# Altium footprint library Crystals.PCBLIB: 22 footprints (part 1 of 2)
Each footprint in its own frame and in the unit in brackets; x right, y up, seen from the top. Pads: shape width x height; smd on the part's side, far side on the other; paste and mask are expansions set on the pad; w line width, h text height; cw(c..) or ccw(c..) is an arc to the next point about the centre after c.
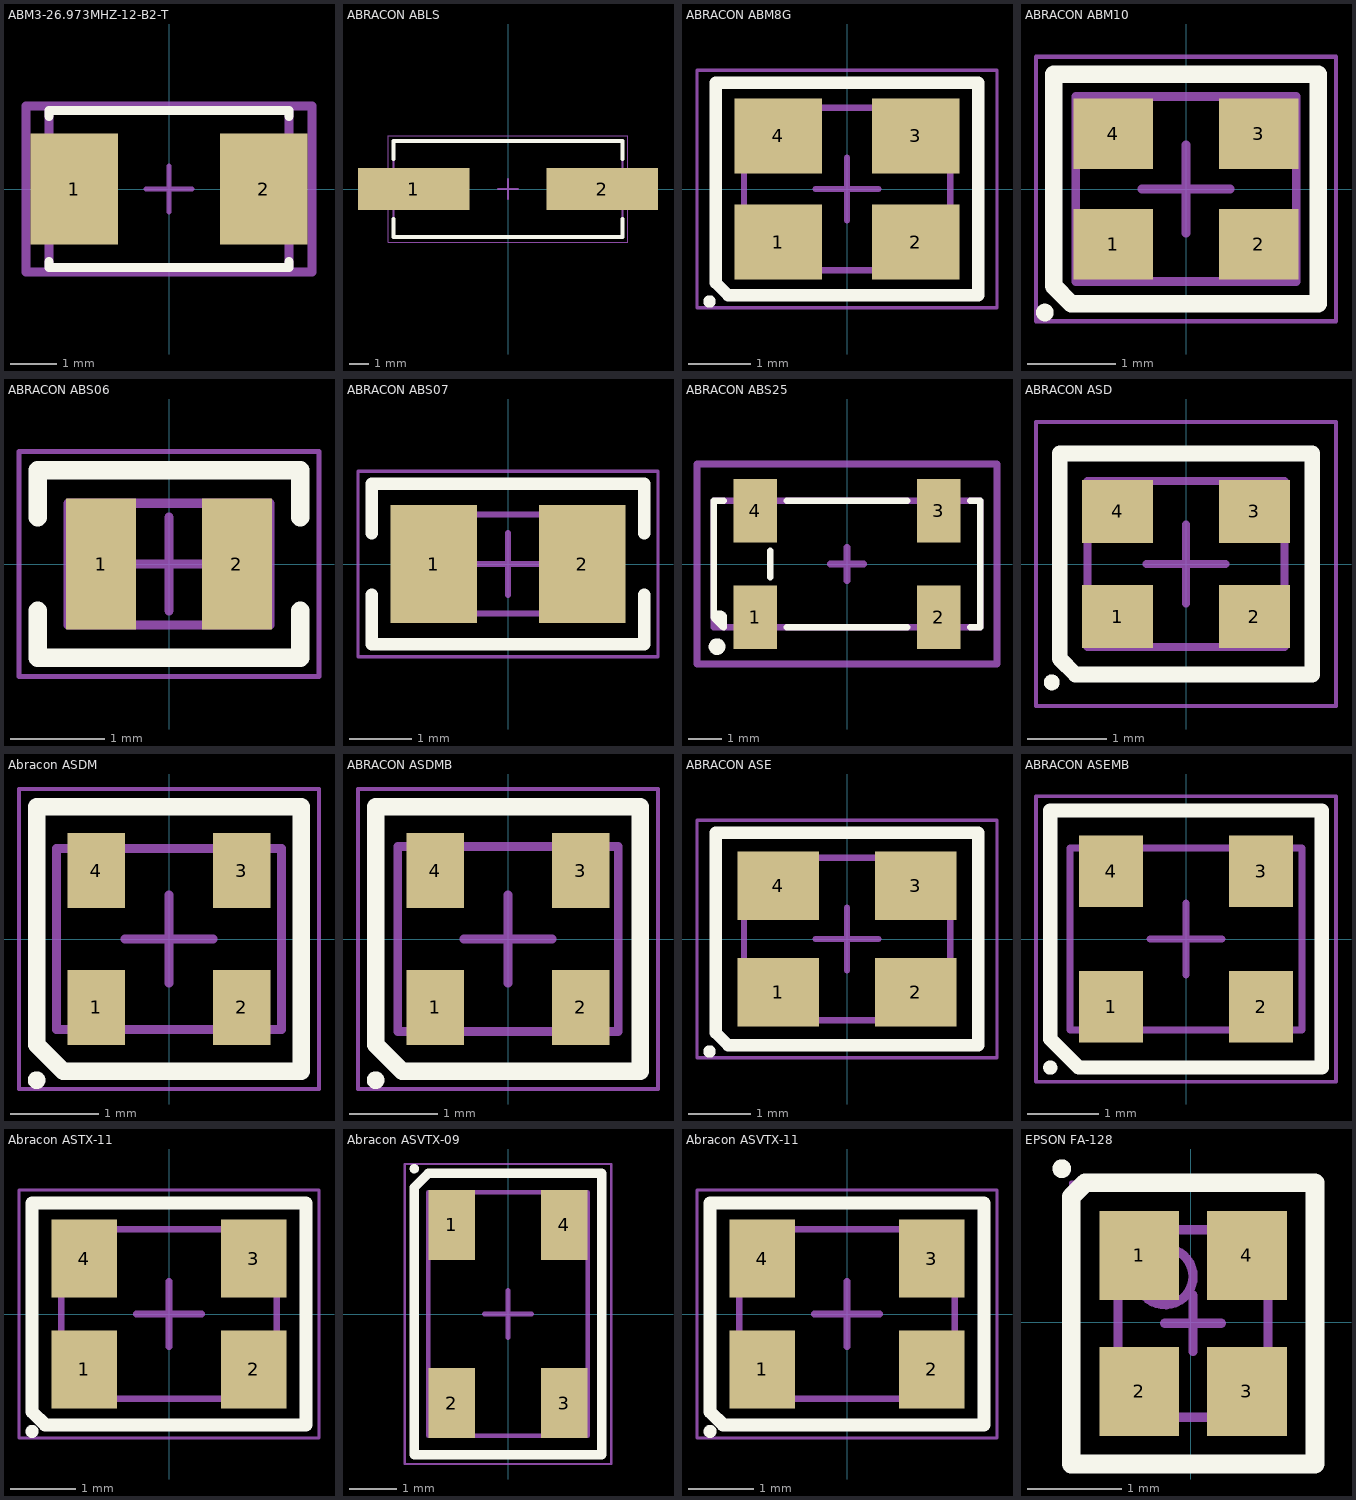
[diagram p0: the footprints below, top view; thin cyan lines are the x and y axes]

## ABM3-26.973MHZ-12-B2-T [mm]
pads (2):
  rect 1.9x2.4 smd paste+0 mask+0: 1(-2.05,0) 2(2.05,0)
Top Overlay:
  lines w0.2: -2.6,-1.575 -2.6,-1.7 2.6,-1.7 2.6,-1.575 ; -2.6,1.575 -2.6,1.7 2.6,1.7 2.6,1.575
Top 3D Body:
  lines w0.2: -2.6,-1.7 -2.6,1.7 2.6,1.7 2.6,-1.7 -2.6,-1.7
Top Courtyard:
  lines w0.2: -3.1,-1.8 -3.1,1.8 3.1,1.8 3.1,-1.8 -3.1,-1.8
Top Assembly:
  lines w0.2: -3.1,-1.8 -3.1,1.8 3.1,1.8 3.1,-1.8 -3.1,-1.8
  text ".Designator" at 0,0.188 h1
Top Component Center:
  lines w0.1: -0.5,0 0.5,0 ; 0,-0.5 0,0.5
3D body "Crys_Abracon_ABM3-25_000MHZ-B2-T_eec.STEP": height 0.25, standoff 0, extent -3.1,-1.8 3.1,1.8

## ABRACON ABLS [mm] "Crystal, 2-Leads, Body 4.70x11.40mm, Pitch 8.80mm, IPC Medium Density"
height 4.2
pads (2):
  rect 5.6x2.1 smd: 1(-4.75,0) 2(4.75,0)
Top Overlay:
  lines w0.2: -5.775,-1.5 -5.775,-2.425 5.775,-2.425 5.775,-1.5 ; -5.775,1.5 -5.775,2.425 5.775,2.425 5.775,1.5
Mechanical 13:
  lines w0.1: -5.775,-2.425 5.775,-2.425 5.775,2.425 -5.775,2.425 -5.775,-2.425
Mechanical 15:
  lines w0.05: -6.025,-2.675 6.025,-2.675 6.025,2.675 -6.025,2.675 -6.025,-2.675
  lines w0.1: -0.5,0 0.5,0 ; 0,-0.5 0,0.5
3D body "HC49US SMT Crystal.STEP": height 4.2, standoff 0, extent -6.35,-2.35 6.35,2.35

## ABRACON ABM8G [mm] "Crystal, 4-Leads, Body 2.50x3.20mm, Pitch 2.20mm, IPC Medium Density"
height 1
pads (4):
  rect 1.4x1.2 smd: 1(-1.1,-0.85) 2(1.1,-0.85) 3(1.1,0.85) 4(-1.1,0.85)
Top Overlay:
  circle w0.1: c-2.2,-1.8 r0.05
  lines w0.2: -2.1,-1.5 -2.1,1.7 2.1,1.7 2.1,-1.7 -1.1,-1.7 -1.9,-1.7 -2.1,-1.5
Mechanical 13:
  lines w0.1: -1.65,-1.3 -1.65,1.3 1.65,1.3 1.65,-1.3 -1.65,-1.3
Mechanical 15:
  lines w0.05: -2.4,-1.9 -2.4,1.9 2.4,1.9 2.4,-1.9 -2.4,-1.9
  lines w0.1: -0.5,0 0.5,0 ; 0,-0.5 0,0.5
3D body "Abracon ABM8G.STEP": height 0.6, standoff 0, extent -1.61,-1.26 1.61,1.26

## ABRACON ABM10 [mm] "Crystal, 4-Leads, Body 2.00x2.45mm, Pitch 1.65mm, IPC Medium Density"
height 0.7
pads (4):
  rect 0.9x0.8 smd: 1(-0.825,-0.625) 2(0.825,-0.625) 3(0.825,0.625) 4(-0.825,0.625)
Top Overlay:
  circle w0.1: c-1.6,-1.4 r0.05
  lines w0.2: -1.5,-1.1 -1.3,-1.3 1.5,-1.3 1.5,1.3 -1.5,1.3 -1.5,-1.1
Mechanical 13:
  lines w0.1: -1.25,-1.05 -1.25,1.05 1.25,1.05 1.25,-1.05 -1.25,-1.05
Mechanical 15:
  lines w0.05: -1.7,-1.5 -1.7,1.5 1.7,1.5 1.7,-1.5 -1.7,-1.5
  lines w0.1: -0.5,0 0.5,0 ; 0,-0.5 0,0.5
3D body "Abracon ABM10.STEP": height 0.5, standoff 0, extent -1.275,-1.025 1.275,1.025

## ABRACON ABS06 [mm] "Crystal, 2-Leads, Body 1.20x2.00mm, Pitch 1.50mm, IPC Medium Density"
height 0.6
pads (2):
  rect 0.75x1.4 smd: 1(-0.725,0) 2(0.725,0)
Top Overlay:
  lines w0.2: -1.4,-0.5 -1.4,-1 0,-1 1.4,-1 1.4,-0.5 ; -1.4,0.5 -1.4,1 1.4,1 1.4,0.5
Mechanical 13:
  lines w0.1: -1.075,-0.65 1.075,-0.65 1.075,0.65 -1.075,0.65 -1.075,-0.65
Mechanical 15:
  lines w0.05: -1.6,-1.2 1.6,-1.2 1.6,1.2 -1.6,1.2 -1.6,-1.2
  lines w0.1: -0.5,0 0.5,0 ; 0,-0.5 0,0.5
3D body "Abracon ABS06.STEP": height 0.6, standoff 0, extent -1.025,-0.625 1.025,0.625

## ABRACON ABS07 [mm] "Crystal, 2-Leads, Body 3.20x1.50mm, IPC Medium Density"
height 0.9
pads (2):
  rect 1.4x1.9 smd: 1(-1.2,0) 2(1.2,0)
Top Overlay:
  lines w0.2: -2.2,-0.5 -2.2,-1.3 2.2,-1.3 2.2,-0.5 ; -2.2,0.5 -2.2,1.3 2.2,1.3 2.2,0.5
Mechanical 13:
  lines w0.1: -1.65,-0.8 1.65,-0.8 1.65,0.8 -1.65,0.8 -1.65,-0.8
Mechanical 15:
  lines w0.05: -2.425,-1.5 2.425,-1.5 2.425,1.5 -2.425,1.5 -2.425,-1.5
  lines w0.1: -0.5,0 0.5,0 ; 0,-0.5 0,0.5
3D body "Abracon ABS07.STEP": height 0.9, standoff 0, extent -1.625,-0.775 1.625,0.775

## ABRACON ABS25 [mm]
height 2.5
pads (4):
  rect 1.3x1.9 smd: 1(-2.75,-1.6) 2(2.75,-1.6) 3(2.75,1.6) 4(-2.75,1.6)
Top Overlay:
  circle w0.25: c-3.9,-2.48 r0.125
  region: -4,-1.5 -4,-1.6 -3.7,-1.9 -3.7,-1.6 -3.8,-1.5
  lines w0.2: -3.7,1.9 -4,1.9 -4,0 -4,-1.6 ; -2.3,-0.4 -2.3,0.4 ; -1.8,-1.9 1.8,-1.9 ; -1.8,1.9 1.8,1.9 ; 3.7,-1.9 4,-1.9 4,0 4,1.9 3.7,1.9 ; -4,-1.6 cw(c-3.9,-1.6) -3.9,-1.5 -3.8,-1.5 cw(c-3.8,-1.6) -3.7,-1.6 -3.7,-1.9 -4,-1.6
Mechanical 1:
  lines w0.2: -4,-1.9 -4,1.9 4,1.9 4,-1.9 -4,-1.9
Mechanical 15:
  lines w0.2: -0.5,0 0.5,0 ; 0,-0.5 0,0.5 ; -4.5,-3 -4.5,3 4.5,3 4.5,-3 -4.5,-3
3D body "Abracon ABS25.STEP": height 2.5, standoff 0, extent -4,-1.9 4,1.9

## ABRACON ASD [mm] "Crystal, 4-Leads, Body 2.00x2.45mm, Pitch 1.65mm, IPC Medium Density"
height 1
pads (4):
  rect 0.9x0.8 smd: 1(-0.865,-0.665) 2(0.865,-0.665) 3(0.865,0.665) 4(-0.865,0.665)
Top Overlay:
  circle w0.1: c-1.7,-1.5 r0.05
  lines w0.2: -1.6,-1.2 -1.6,1.4 1.6,1.4 1.6,-1.4 -1.4,-1.4 -1.6,-1.2
Mechanical 13:
  lines w0.1: -1.25,-1.05 1.25,-1.05 1.25,1.05 -1.25,1.05 -1.25,-1.05
Mechanical 15:
  lines w0.05: -1.9,-1.8 1.9,-1.8 1.9,1.8 -1.9,1.8 -1.9,-1.8
  lines w0.1: -0.5,0 0.5,0 ; 0,-0.5 0,0.5
3D body "Abracon ASD.STEP": height 1, standoff 0, extent -1.275,-1.025 1.275,1.025

## Abracon ASDM [mm] "MEMS Clock, 4-Leads, Body 2.00x2.50mm, Pitch 1.65mm, IPC Medium Density"
height 0.85
pads (4):
  rect 0.65x0.85 smd: 1(-0.825,-0.775) 2(0.825,-0.775) 3(0.825,0.775) 4(-0.825,0.775)
Top Overlay:
  circle w0.1: c-1.5,-1.6 r0.05
  lines w0.2: -1.5,-1.2 -1.2,-1.5 1.5,-1.5 1.5,1.5 -1.5,1.5 -1.5,-1.2
Mechanical 13:
  lines w0.1: -1.275,-1.025 1.275,-1.025 1.275,1.025 -1.275,1.025 -1.275,-1.025
Mechanical 15:
  lines w0.05: -1.7,-1.7 1.7,-1.7 1.7,1.7 -1.7,1.7 -1.7,-1.7
  lines w0.1: -0.5,0 0.5,0 ; 0,-0.5 0,0.5
3D body: height 0.85, standoff 0, extent -1.275,-1.025 1.275,1.025

## ABRACON ASDMB [mm] "MEMS Clock, 4-Leads, Body 2.00x2.45mm, Pitch 1.65mm, IPC Medium Density"
height 0.85
pads (4):
  rect 0.65x0.85 smd: 1(-0.825,-0.775) 2(0.825,-0.775) 3(0.825,0.775) 4(-0.825,0.775)
Top Overlay:
  circle w0.1: c-1.5,-1.6 r0.05
  lines w0.2: -1.5,-1.2 -1.5,1.5 1.5,1.5 1.5,-1.5 -1.2,-1.5 -1.5,-1.2
Mechanical 13:
  lines w0.1: -1.25,-1.05 1.25,-1.05 1.25,1.05 -1.25,1.05 -1.25,-1.05
Mechanical 15:
  lines w0.05: -1.7,-1.7 1.7,-1.7 1.7,1.7 -1.7,1.7 -1.7,-1.7
  lines w0.1: -0.5,0 0.5,0 ; 0,-0.5 0,0.5
3D body: height 0.85, standoff 0, extent -1.25,-1.05 1.25,1.05

## ABRACON ASE [mm] "Crystal, 4-Leads, Body 2.50x3.20mm, Pitch 2.20mm, IPC Medium Density"
height 1
pads (4):
  rect 1.3x1.1 smd: 1(-1.1,-0.85) 2(1.1,-0.85) 3(1.1,0.85) 4(-1.1,0.85)
Top Overlay:
  circle w0.1: c-2.2,-1.8 r0.05
  lines w0.2: -2.1,-1.5 -1.9,-1.7 -1.1,-1.7 2.1,-1.7 2.1,1.7 -2.1,1.7 -2.1,-1.5
Mechanical 13:
  lines w0.1: -1.65,-1.3 1.65,-1.3 1.65,1.3 -1.65,1.3 -1.65,-1.3
Mechanical 15:
  lines w0.05: -2.4,-1.9 2.4,-1.9 2.4,1.9 -2.4,1.9 -2.4,-1.9
  lines w0.1: -0.5,0 0.5,0 ; 0,-0.5 0,0.5
3D body "Abracon ASE.STEP": height 1.2, standoff 0, extent -1.625,-1.275 1.625,1.275

## ABRACON ASEMB [mm] "MEMS Clock, 4-Leads, Body 2.50x3.20mm, Pitch 2.10mm, IPC Medium Density"
height 0.85
pads (4):
  rect 0.9x1 smd: 1(-1.05,-0.95) 2(1.05,-0.95) 3(1.05,0.95) 4(-1.05,0.95)
Top Overlay:
  circle w0.1: c-1.9,-1.8 r0.05
  lines w0.2: -1.9,-1.4 -1.5,-1.8 1.9,-1.8 1.9,1.8 -1.9,1.8 -1.9,-1.4
Mechanical 13:
  lines w0.1: -1.625,-1.275 -1.625,1.275 1.625,1.275 1.625,-1.275 -1.625,-1.275
Mechanical 15:
  lines w0.05: -2.1,-2 -2.1,2 2.1,2 2.1,-2 -2.1,-2
  lines w0.1: -0.5,0 0.5,0 ; 0,-0.5 0,0.5
3D body: height 0.85, standoff 0, extent -1.625,-1.275 1.625,1.275

## Abracon ASTX-11 [mm] "Crystal, 4-Leads, Body 2.50x3.20mm, Pitch 2.38mm, IPC Medium Density"
height 0.9
pads (4):
  rect 1x1.2 smd: 1(-1.3,-0.85) 2(1.3,-0.85) 3(1.3,0.85) 4(-1.3,0.85)
Top Overlay:
  circle w0.1: c-2.1,-1.8 r0.05
  lines w0.2: -2.1,-1.5 -1.9,-1.7 2.1,-1.7 2.1,1.7 -2.1,1.7 -2.1,-1.5
Mechanical 13:
  lines w0.1: -1.65,-1.3 -1.65,1.3 1.65,1.3 1.65,-1.3 -1.65,-1.3
Mechanical 15:
  lines w0.05: -2.3,-1.9 -2.3,1.9 2.3,1.9 2.3,-1.9 -2.3,-1.9
  lines w0.1: -0.5,0 0.5,0 ; 0,-0.5 0,0.5
3D body "Abracon ASVTX-11.STEP": height 0.9, standoff 0, extent -1.61,-1.26 1.61,1.26

## Abracon ASVTX-09 [mm] "XO, 4-Leads, Body 5.00x3.20mm, Pitch 3.70mm, IPC Medium Density"
height 1.5
pads (4):
  rect 1x1.5 smd: 1(-1.2,1.9) 2(-1.2,-1.9) 3(1.2,-1.9) 4(1.2,1.9)
Top Overlay:
  circle w0.1: c-2,3.1 r0.05
  lines w0.2: -2,-3 -2,2.7 -1.7,3 2,3 2,-3 -2,-3
Mechanical 13:
  lines w0.1: -1.7,-2.6 1.7,-2.6 1.7,2.6 -1.7,2.6 -1.7,-2.6
Mechanical 15:
  lines w0.05: -2.2,-3.2 2.2,-3.2 2.2,3.2 -2.2,3.2 -2.2,-3.2
  lines w0.1: -0.5,0 0.5,0 ; 0,-0.5 0,0.5
3D body "Abracon ASVTX-09.STEP": height 1.5, standoff 0, extent -1.625,-2.525 1.625,2.525

## Abracon ASVTX-11 [mm] "Crystal, 4-Leads, Body 2.50x3.20mm, Pitch 2.38mm, IPC Medium Density"
height 0.9
pads (4):
  rect 1x1.2 smd: 1(-1.3,-0.85) 2(1.3,-0.85) 3(1.3,0.85) 4(-1.3,0.85)
Top Overlay:
  circle w0.1: c-2.1,-1.8 r0.05
  lines w0.2: -2.1,-1.5 -2.1,1.7 2.1,1.7 2.1,-1.7 -1.9,-1.7 -2.1,-1.5
Mechanical 13:
  lines w0.1: -1.65,-1.3 1.65,-1.3 1.65,1.3 -1.65,1.3 -1.65,-1.3
Mechanical 15:
  lines w0.05: -2.3,-1.9 2.3,-1.9 2.3,1.9 -2.3,1.9 -2.3,-1.9
  lines w0.1: -0.5,0 0.5,0 ; 0,-0.5 0,0.5
3D body "Abracon ASVTX-11.STEP": height 0.9, standoff 0, extent -1.61,-1.26 1.61,1.26

## EPSON FA-128 [mm] "4-SMD, Body 2.00X1.60mm"
height 0.5
pads (4):
  rect 0.85x0.95 smd: 1(-0.551,0.712) 2(-0.551,-0.738) 3(0.599,-0.738) 4(0.599,0.712)
Top Overlay:
  circle w0.1: c-1.376,1.637 r0.05
  lines w0.2: -1.276,-1.513 -1.276,1.337 -1.126,1.487 1.324,1.487 1.324,-1.513 -1.276,-1.513
Mechanical 13:
  circle w0.1: c-0.276,0.487 r0.3
  lines w0.1: -0.776,-1.013 -0.776,0.987 0.824,0.987 0.824,-1.013 -0.776,-1.013
Mechanical 15:
  lines w0.05: -1.276,-1.513 1.324,-1.513 1.324,1.487 -1.276,1.487 -1.276,-1.513
  lines w0.1: -0.276,-0.013 0.024,-0.013 ; 0.024,-0.313 0.024,-0.013 ; 0.024,0.287 0.024,-0.013 ; 0.324,-0.013 0.024,-0.013
3D body "Epson - FA-128 v1.step": height 0.5, standoff 0, extent -0.776,-1.013 0.824,0.987